# Altium schematic symbol library R463I32204002M.SchLib: 1 symbol
Pins are listed as number, name and electrical type; pins without a type are passive.

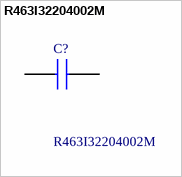
[diagram p0: symbol R463I32204002M]

## R463I32204002M
designator C?
R46 310 VAC, Film, Metallized Polypropylene, Safety, 0.22 uF, 20%, 310 VAC, 310 VAC (X2), 310 VAC, 630 VDC, 110C, -40C, 110C, 0.1 % , 100 GOhms, 400 V/us, 2, 2.4 g, 18mm, 17.5mm, 6mm, Lead Spacing = 15mm, 700; Manufacturer_Name: KEMET; Geometry.Height: 13.6mm; Mouser Part Number: 80-R463I32204002M; Mouser Price/Stock: https://www.mouser.co.uk/ProductDetail/KEMET/R463I32204002M?qs=%252BEew9%252B0nqrCK%252BJI8ePwnUw%3D%3D; Manufacturer_Part_Number: R463I32204002M; Datasheet Link: https://content.kemet.com/datasheets/KEM_F3095_R46_X2_310_110C.pdf
footprint R463I32204002M
pins: 1, 2